# Altium footprint library ArduinoShield.PcbLib: 1 footprints
Each footprint in its own frame and in the unit in brackets; x right, y up, seen from the top. Pads: shape width x height; smd on the part's side, far side on the other; paste and mask are expansions set on the pad; w line width, h text height; cw(c..) or ccw(c..) is an arc to the next point about the centre after c.
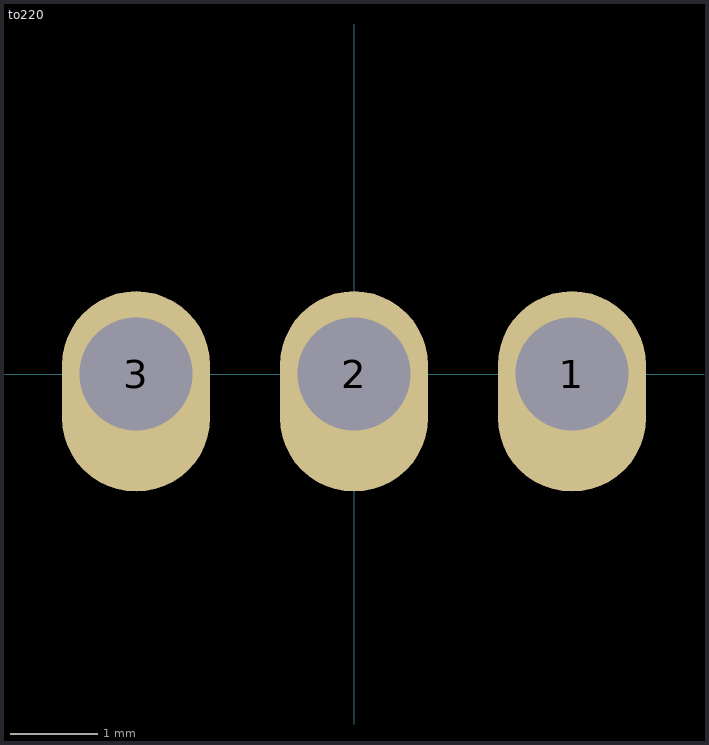
[diagram p0: the footprint, top view; thin cyan lines are the x and y axes]

## to220 [mm]
pads (3):
  oval 1.7x2.3 hole 1.3 copper offset 0,-0.2: 1(2.5,0) 2(0,0) 3(-2.5,0)